# EAGLE library part TPS2041B (library X893)
http://focus.ti.com/lit/ds/symlink/tps2041b.pdf
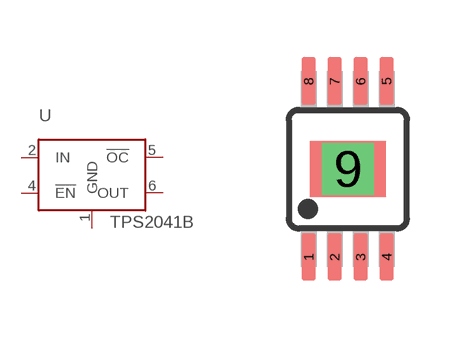
[diagram p76: symbol with the pads of MSOP8-THERMAL; footprint MSOP8-THERMAL]

Designator prefix U

## TPS2041BDGN  [MSOP8-THERMAL]
1  GND
2  IN  pas
3  IN  pas
4  !EN
5  !OC  oc
6  OUT  pas
7  OUT  pas
8  OUT  pas

## Footprint MSOP8-THERMAL (pad centres in mm)
8M, 8-Lead, 0.118" Wide with Thermal pad, Miniature Small Outline Package MSOP 8M-Package doc1097.pdf
smd 0.35 x 1.2: 1 -0.975,-2.2; 2 -0.325,-2.2; 3 0.325,-2.2; 4 0.975,-2.2; 5 0.975,2.2; 6 0.325,2.2; 7 -0.325,2.2; 8 -0.975,2.2
drill 0.6 pad 1.3 square: 9 0,0